# Altium footprint library LV-BMS.PcbLib: 24 footprints (part 1 of 2)
Each footprint in its own frame and in the unit in brackets; x right, y up, seen from the top. Pads: shape width x height; smd on the part's side, far side on the other; paste and mask are expansions set on the pad; w line width, h text height; cw(c..) or ccw(c..) is an arc to the next point about the centre after c.
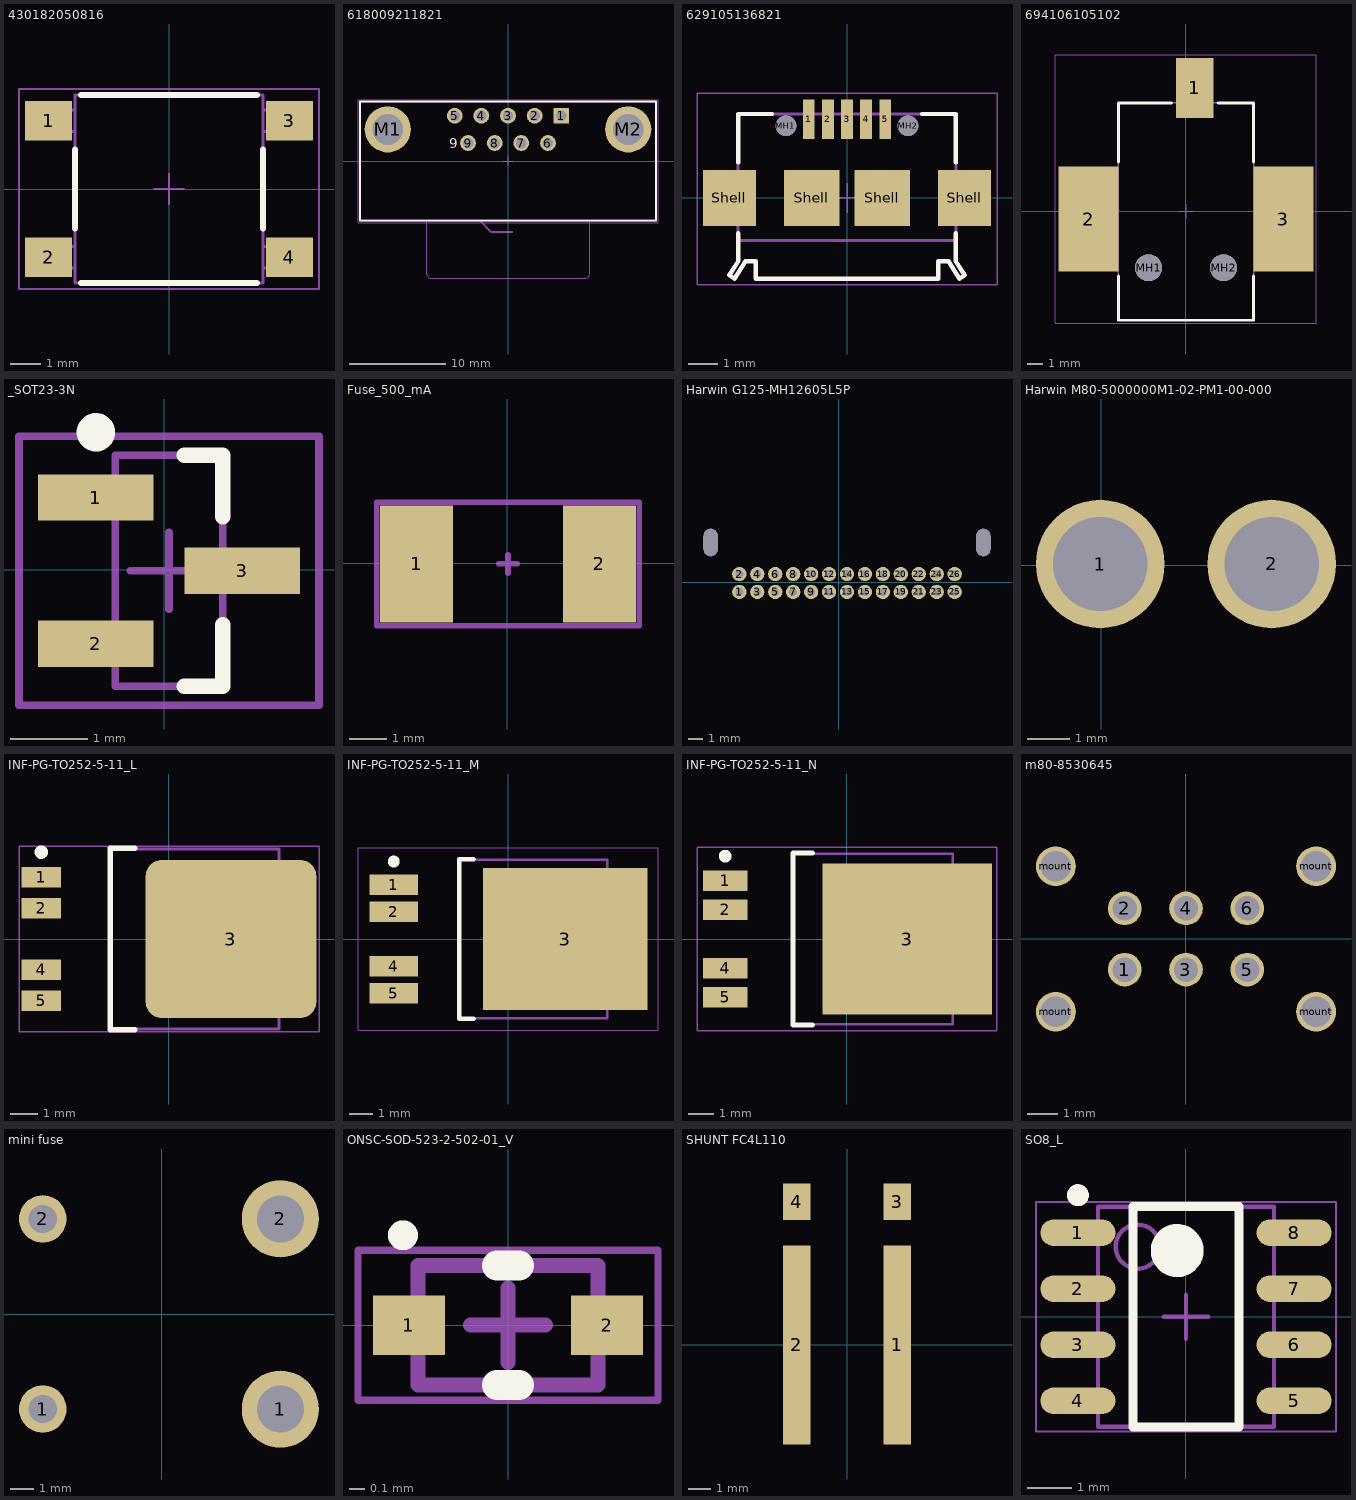
[diagram p0: the footprints below, top view; thin cyan lines are the x and y axes]

## 430182050816 [mm] "SMD Tact Switch, body 6x6mm"
height 5
pads (4):
  rect 1.55x1.3 smd: 1(-3.975,2.25) 2(-3.975,-2.25) 3(3.975,2.25) 4(3.975,-2.25)
Top Overlay:
  lines w0.2: -3.1,-1.3 -3.1,1.3 ; -2.9,-3.1 2.9,-3.1 ; -2.9,3.1 2.9,3.1 ; 3.1,-1.3 3.1,1.3
Mechanical 13:
  lines w0.1: -3.1,-2.6 -4.5,-2.6 -4.5,-1.9 -3.1,-1.9 ; -3.1,1.9 -4.5,1.9 -4.5,2.6 -3.1,2.6 ; 3.1,-2.6 4.5,-2.6 4.5,-1.9 3.1,-1.9 ; 3.1,1.9 4.5,1.9 4.5,2.6 3.1,2.6 ; -3.1,-3.1 3.1,-3.1 3.1,3.1 -3.1,3.1 -3.1,-3.1
Mechanical 15:
  lines w0.05: -0.5,0 0.5,0 ; 0,-0.5 0,0.5 ; -4.95,-3.3 -4.95,3.3 4.95,3.3 4.95,-3.3 -4.95,-3.3
3D body "4301x20508x6.stp": height 5, standoff 0, extent -4.5,-3.1 4.5,3.1

## 618009211821 [mm] "09p 8.08mm bracket, board lock & UNC4-40 Rivet without hex screw"
height 12.5
pads (11):
  rect 1.65x1.65 hole 1.09: 1(5.54,4.72)
  round 1.65 hole 1.09: 2(2.77,4.72) 3(0,4.72) 4(-2.77,4.72) 5(-5.54,4.72) 6(4.155,1.88) 7(1.385,1.88) 8(-1.385,1.88) 9(-4.155,1.88)
  round 4.8 hole 3.2: M1(-12.5,3.3) M2(12.5,3.3)
Top Overlay:
  lines w0.2: -15.4,-6.2 15.4,-6.2 15.4,6.2 -15.4,6.2 -15.4,-6.2
  text "9" at -6.1,1.35 h1.02
Mechanical 2:
  lines w0.2: -15.4,-6.12 15.4,-6.12 ; -3,-6.12 -1.77,-7.35 0.4,-7.35
  text "PCB Edge" at 0.7,-8.05 h1.02
Mechanical 13:
  lines w0.1: -8.45,-6.2 -8.45,-11.7 ccw(c-7.95,-11.7) -7.95,-12.2 ; -8,-12.2 8,-12.2 ccw(c8,-11.7) 8.5,-11.7 8.5,-6.2 ; -15.4,-6.2 -15.4,6.2 15.4,6.2 15.4,-6.2 -15.4,-6.2
Mechanical 15:
  lines w0.05: -0.5,0 0.5,0 ; 0,-0.5 0,0.5 ; -15.6,-6.4 -15.6,6.4 15.6,6.4 15.6,-6.4 -15.6,-6.4
3D body "618009211821.stp": height 12.55, standoff -3.95, extent -15.4,-12.2 15.4,6.2

## 629105136821 [mm] "Micro USB 2.0 SMT Type B Horizontal 5 Contacts"
height 3
pads (11):
  rect 0.4x1.35 smd: 1(-1.3,2.675) 2(-0.65,2.675) 3(0,2.675) 4(0.65,2.675) 5(1.3,2.675)
  round 0.7 hole 0.7 unplated: MH1(-2.075,2.45) MH2(2.075,2.45)
  rect 1.8x1.9 smd: Shell(-4,0) Shell(4,0)
  rect 1.9x1.9 smd: Shell(-1.2,0) Shell(1.2,0)
Top Overlay:
  lines w0.15: -3.7,-1.2 -3.7,-2.15 -4,-2.625 -3.825,-2.75 -3.45,-2.15 -3.1,-2.15 -3.1,-2.75 3.1,-2.75 3.1,-2.15 3.45,-2.15 3.825,-2.75 4,-2.625 3.7,-2.15 3.7,-1.2 ; -3.7,1.2 -3.7,2.85 -2.55,2.85 ; 2.55,2.85 3.7,2.85 3.7,1.2
Mechanical 2:
  lines w0.1: -3.7,-1.45 3.7,-1.45
  text "PCB Edge" at -1.2,-2.1 h0.41
Mechanical 11:
  lines w0.1: -1.425,2.85 -1.425,3.15 -1.175,3.15 -1.175,2.85 ; -0.775,2.85 -0.775,3.15 -0.525,3.15 -0.525,2.85 ; -0.125,2.85 -0.125,3.15 0.125,3.15 0.125,2.85 ; 0.525,2.85 0.525,3.15 0.775,3.15 0.775,2.85 ; 1.175,2.85 1.175,3.15 1.425,3.15 1.425,2.85 ; -4,-2.625 -3.825,-2.75 -3.45,-2.15 -3.1,-2.15 -3.1,-2.75 3.1,-2.75 3.1,-2.15 3.45,-2.15 3.825,-2.75 4,-2.625 3.7,-2.15 3.7,2.85 -3.7,2.85 -3.7,-2.15 -4,-2.625
  text ".Designator" at -1.27,-0.381 h0.76
Mechanical 13:
  lines w0.1: -1.425,2.85 -1.425,3.15 -1.175,3.15 -1.175,2.85 ; -0.775,2.85 -0.775,3.15 -0.525,3.15 -0.525,2.85 ; -0.125,2.85 -0.125,3.15 0.125,3.15 0.125,2.85 ; 0.525,2.85 0.525,3.15 0.775,3.15 0.775,2.85 ; 1.175,2.85 1.175,3.15 1.425,3.15 1.425,2.85 ; -4,-2.625 -3.7,-2.15 -3.7,2.85 3.7,2.85 3.7,-2.15 4,-2.625 3.825,-2.75 3.45,-2.15 3.1,-2.15 3.1,-2.75 -3.1,-2.75 -3.1,-2.15 -3.45,-2.15 -3.825,-2.75 -4,-2.625
Mechanical 15:
  lines w0.05: -0.5,0 0.5,0 ; 0,-0.5 0,0.5 ; -5.1,-2.95 -5.1,3.55 5.1,3.55 5.1,-2.95 -5.1,-2.95
3D body "629105136821.stp": height 2.69, standoff -0.61, extent -4,-2.73 4,3.173

## 694106105102 [mm] "DC Power Jack Right Angled SMT ?6.4 with pegs"
height 11
pads (5):
  rect 2.5x4 smd: 1(0.6,8.25)
  rect 4x7 smd: 2(-6.5,-0.5) 3(6.5,-0.5)
  round 1.8 hole 1.8 unplated: MH1(-2.5,-3.75) MH2(2.5,-3.75)
Top Overlay:
  lines w0.2: -4.5,-4.3 -4.5,-7.25 4.5,-7.25 4.5,-4.3 ; -4.5,3.3 -4.5,7.25 -0.95,7.25 ; 2.15,7.25 4.5,7.25 4.5,3.3
Mechanical 13:
  lines w0.1: -4.5,-2.8 -7.6,-2.8 -7.6,1.8 -4.5,1.8 ; -0.3,7.25 -0.3,9.75 1.5,9.75 1.5,7.25 ; 4.5,-2.8 7.6,-2.8 7.6,1.8 4.5,1.8 ; -4.5,-7.25 -4.5,7.25 4.5,7.25 4.5,-7.25 -4.5,-7.25
Mechanical 15:
  lines w0.05: -0.5,0 0.5,0 ; 0,-0.5 0,0.5 ; -8.7,-7.45 -8.7,10.45 8.7,10.45 8.7,-7.45 -8.7,-7.45
3D body "694106105102.stp": height 11.05, standoff -1.95, extent -7.6,-7.25 7.6,9.75

## _SOT23-3N [mm]
pads (3):
  rect 1.5x0.6 smd: 1(-0.89,0.936) 2(-0.89,-0.964) 3(1.01,-0.014)
Top Overlay:
  circle w0.25: c-0.89,1.786 r0.125
  lines w0.2: 0.26,-1.514 0.76,-1.514 0.76,-0.714 ; 0.26,1.486 0.76,1.486 0.76,0.686
Mechanical 13:
  lines w0.1: -0.64,-1.514 -0.64,1.486 0.76,1.486 0.76,-1.514 -0.64,-1.514
Mechanical 15:
  lines w0.1: -0.44,-0.014 0.56,-0.014 ; 0.06,-0.514 0.06,0.486 ; -1.89,-1.764 -1.89,1.736 2.01,1.736 2.01,-1.764 -1.89,-1.764
3D body: height 1.1, standoff 0, extent -0.64,-1.514 0.76,1.486

## Fuse_500_mA [mm]
pads (2):
  rect 1.96x3.15 smd: 1(-2.43,-0.025) 2(2.48,-0.025)
Mechanical 15:
  lines w0.15: -0.225,-0.025 0.275,-0.025 ; 0.025,-0.275 0.025,0.225 ; -3.5,-1.69 3.551,-1.69 3.551,1.637 -3.5,1.637 -3.5,-1.69
3D body: height 2.34, standoff 0.2, extent -3.024,-1.524 3.075,1.475
3D body: height 2.54, standoff 0, extent 1.576,-1.6 3.075,1.549
3D body: height 2.54, standoff 0, extent -3.025,-1.6 -1.526,1.549

## Harwin G125-MH12605L5P [mm]
pads (28):
  round 0.5 hole 1 slot 1.9 at 90 deg: 0(-8.925,2.775) 0(10.075,2.775)
  round 1 hole 0.55: 1(-6.925,-0.675) 2(-6.925,0.575) 3(-5.675,-0.675) 4(-5.675,0.575) 5(-4.425,-0.675) 6(-4.425,0.575) 7(-3.175,-0.675) 8(-3.175,0.575) 9(-1.925,-0.675) 10(-1.925,0.575) 11(-0.675,-0.675) 12(-0.675,0.575) 13(0.575,-0.675) 14(0.575,0.575) 15(1.825,-0.675) 16(1.825,0.575) 17(3.075,-0.675) 18(3.075,0.575) 19(4.325,-0.675) 20(4.325,0.575) 21(5.575,-0.675) 22(5.575,0.575) 23(6.825,-0.675) 24(6.825,0.575) 25(8.075,-0.675) 26(8.075,0.575)
3D body "g125-mh12605l5_asm.stp": height 5.95, standoff -2.79, extent -9.025,-0.925 10.175,5.425

## Harwin M80-5000000M1-02-PM1-00-000 [mm]
pads (2):
  round 3 hole 2.2: 1(-0.025,0.025) 2(3.975,0.025)
3D body "m80-5000000m1-02-pm1-00-000_asm.stp": height 5.6, standoff -3.3, extent -7.025,-2.75 10.975,3.3

## INF-PG-TO252-5-11_L [mm] "DPAK, 5-Leads, Body 6.5x6.12mm, Pitch 1.14mm, IPC High Density"
height 2.35
pads (5):
  rect 1.45x0.75 smd: 1(-4.7,2.28) 2(-4.7,1.14) 4(-4.7,-1.14) 5(-4.7,-2.28)
  rrect20% 6.3x5.85 smd: 3(2.3,0)
Top Overlay:
  circle w0.25: c-4.7,3.205 r0.125
  lines w0.2: -1.25,-3.35 -2.15,-3.35 -2.15,3.35 -1.25,3.35
Mechanical 13:
  lines w0.1: -2.15,-3.325 -2.15,3.325 4.07,3.325 4.07,-3.325 -2.15,-3.325
Mechanical 15:
  lines w0.05: -5.525,-3.425 -5.525,3.425 5.55,3.425 5.55,-3.425 -5.525,-3.425
  lines w0.1: -0.5,0 0.5,0 ; 0,-0.5 0,0.5
3D body: height 2.35, standoff 0, extent -2.15,-3.325 4.07,3.325

## INF-PG-TO252-5-11_M [mm] "DPAK, 5-Leads, Body 6.5x6.12mm, Pitch 1.14mm, IPC Low Density"
height 2.35
pads (5):
  rect 2.05x0.85 smd: 1(-4.8,2.28) 2(-4.8,1.14) 4(-4.8,-1.14) 5(-4.8,-2.28)
  rect 6.9x5.95 smd: 3(2.4,0)
Top Overlay:
  circle w0.25: c-4.8,3.255 r0.125
  lines w0.2: -1.45,-3.35 -2.05,-3.35 -2.05,3.35 -1.45,3.35
Mechanical 13:
  lines w0.1: -2.05,-3.325 -2.05,3.325 4.17,3.325 4.17,-3.325 -2.05,-3.325
Mechanical 15:
  lines w0.05: -6.3,-3.825 -6.3,3.825 6.3,3.825 6.3,-3.825 -6.3,-3.825
  lines w0.1: -0.5,0 0.5,0 ; 0,-0.5 0,0.5
3D body: height 2.35, standoff 0, extent -2.05,-3.325 4.17,3.325

## INF-PG-TO252-5-11_N [mm] "DPAK, 5-Leads, Body 6.5x6.12mm, Pitch 1.14mm, IPC Medium Density"
height 2.35
pads (5):
  rect 1.75x0.8 smd: 1(-4.75,2.28) 2(-4.75,1.14) 4(-4.75,-1.14) 5(-4.75,-2.28)
  rect 6.6x5.9 smd: 3(2.35,0)
Top Overlay:
  circle w0.25: c-4.75,3.23 r0.125
  lines w0.2: -1.35,-3.35 -2.1,-3.35 -2.1,3.35 -1.35,3.35
Mechanical 13:
  lines w0.1: -2.1,-3.325 -2.1,3.325 4.12,3.325 4.12,-3.325 -2.1,-3.325
Mechanical 15:
  lines w0.05: -5.85,-3.575 -5.85,3.575 5.85,3.575 5.85,-3.575 -5.85,-3.575
  lines w0.1: -0.5,0 0.5,0 ; 0,-0.5 0,0.5
3D body: height 2.35, standoff 0, extent -2.1,-3.325 4.12,3.325

## m80-8530645 [mm]
pads (10):
  round 1.1 hole 0.8: 1(-2,-1) 2(-2,1) 3(0,-1) 4(0,1) 5(2,-1) 6(2,1)
  round 1.3 hole 1: mount(-4.25,-2.375) mount(-4.25,2.375) mount(4.25,-2.375) mount(4.25,2.375)
3D body "m80-8630645_asm.stp": height 8.06, standoff -3.64, extent -4.95,-3.075 4.95,2.775

## mini fuse [mm]
pads (4):
  round 2.032 hole 1.2: 1(-5.08,-4.065) 2(-5.08,4.065)
  round 3.302 hole 2: 1(5.08,-4.065) 2(5.08,4.065)
3D body "with holder assembly.stp": height 3.57, standoff -3.81, extent -5.232,-6.046 13.273,6.046

## ONSC-SOD-523-2-502-01_V [mm] "SOD, 2-Leads, Body 1.2x0.8mm"
height 0.7
pads (2):
  rect 0.48x0.4 smd: 1(-0.66,0) 2(0.66,0)
Top Overlay:
  circle w0.1: c-0.7,0.6 r0.05
  lines w0.2: -0.074,-0.4 0.074,-0.4 ; -0.074,0.4 0.074,0.4
Mechanical 13:
  lines w0.1: -0.6,-0.4 0.6,-0.4 0.6,0.4 -0.6,0.4 -0.6,-0.4
Mechanical 15:
  lines w0.05: -1,-0.5 -1,0.5 1,0.5 1,-0.5 -1,-0.5
  lines w0.1: -0.25,0 0.25,0 ; 0,-0.25 0,0.25
3D body: height 0.7, standoff 0, extent -0.6,-0.4 0.6,0.4

## SHUNT FC4L110 [mm]
pads (4):
  rect 1.2x8.7 smd: 1(2.2,0) 2(-2.2,0)
  rect 1.2x1.6 smd: 3(2.2,6.25) 4(-2.2,6.25)
3D body "FC4L110.stp": height 0.5, standoff -0.01, extent -2.46,-4.103 2.54,6.897

## SO8_L [mm] "SOIC, 8-Leads, Body 4.9x3.9mm, Pitch 1.27mm, IPC High Density"
height 1.73
pads (8):
  oval 1.7x0.6 smd: 1(-2.45,1.905) 2(-2.45,0.635) 3(-2.45,-0.635) 4(-2.45,-1.905) 5(2.45,-1.905) 6(2.45,-0.635) 7(2.45,0.635) 8(2.45,1.905)
Top Overlay:
  circle w0.6: c-0.2,1.5 r0.3
  circle w0.25: c-2.45,2.755 r0.125
  lines w0.2: -1.2,-2.5 1.2,-2.5 1.2,2.5 -1.2,2.5 -1.2,-2.5
Mechanical 13:
  circle w0.1: c-1.095,1.59 r0.5
  lines w0.1: -1.995,-2.49 1.995,-2.49 1.995,2.49 -1.995,2.49 -1.995,-2.49
Mechanical 15:
  lines w0.05: -3.4,-2.6 3.4,-2.6 3.4,2.6 -3.4,2.6 -3.4,-2.6
  lines w0.1: -0.5,0 0.5,0 ; 0,-0.5 0,0.5
3D body: height 1.73, standoff 0.1, extent -1.995,-2.49 1.995,2.49